# Altium schematic symbol library CMR_Connectors.SchLib: 71 symbols
Pins are listed as number, name and electrical type; pins without a type are passive.

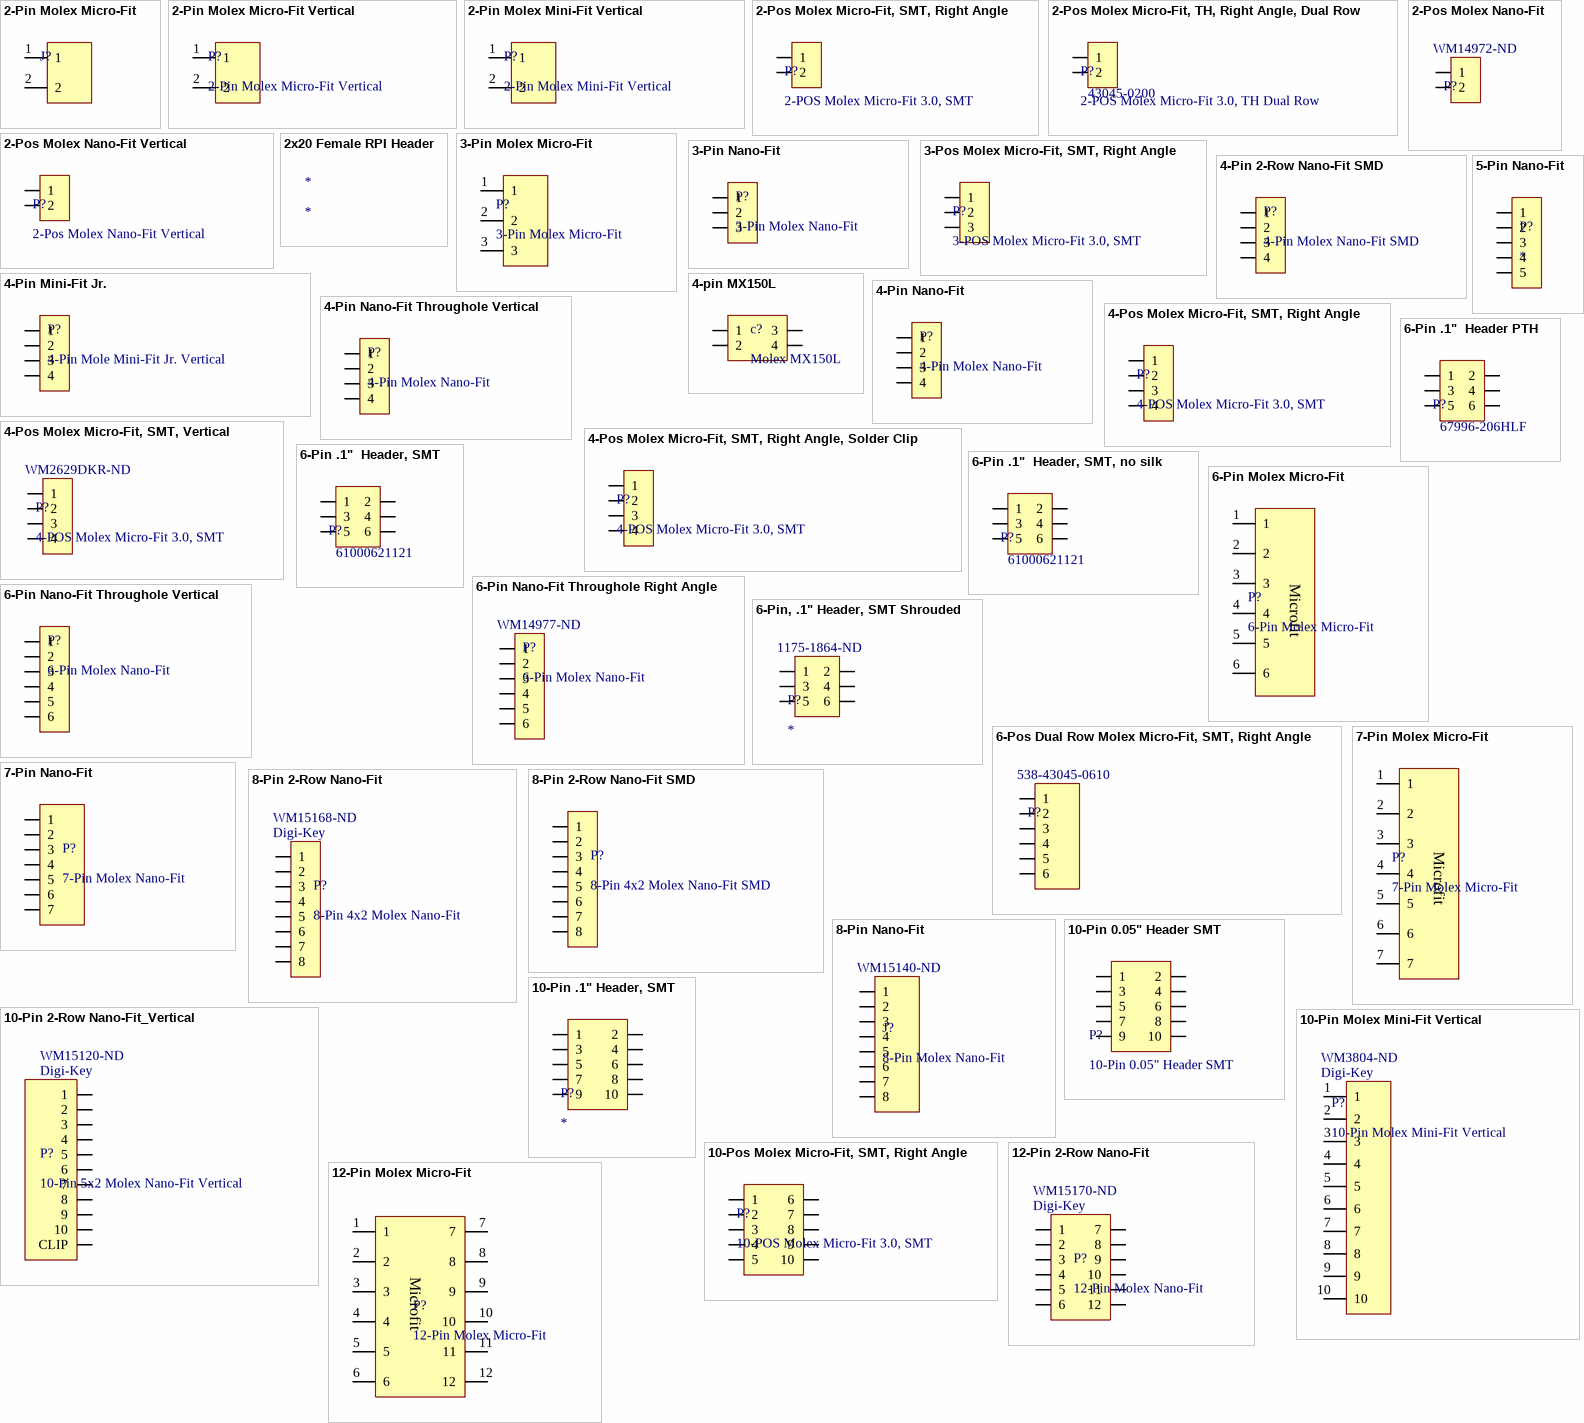
[diagram p0: symbols 2-Pin Molex Micro-Fit to 12-Pin Molex Micro-Fit]

## 2-Pin Molex Micro-Fit
designator J?
Part Number: 0436500203; Manufacturer: Molex; Datasheet: http://www.molex.com/pdm_docs/sd/436500203_sd.pdf; Supplier Part Number: WM1870-ND; Supplier: Digi-key
footprint 2 Pin Molex Micro-Fit
pins: 1, 2

## 2-Pin Molex Micro-Fit Vertical
designator P?
Part Number: 43650-0218; Manufacturer: Molex; Supplier 1: Digi-Key; Datasheet: http://www.molex.com/pdm_docs/sd/436500218_sd.pdf; Supplier Part Number 1: WM9757-ND
footprint 2 Pin Molex Micro-Fit Vertical
pins: 1, 2

## 2-Pin Molex Mini-Fit Vertical
designator P?
Part Number: 39-29-9025; Supplier Part Number: WM10860-ND; Supplier: Digi-key; Manufacturer: Molex
footprint Molex Mini Fit Jr. 2 Pin Vertical
pins: 1, 2

## 2-Pos Molex Micro-Fit, SMT, Right Angle
designator P?, comment 2-POS Molex Micro-Fit 3.0, SMT
2-Pos Molex Micro-Fit Right Angle, Dual Row, SMT; Part Number: 43650-0212; Datasheet: http://www.molex.com/pdm_docs/sd/436500212_sd.pdf; Manufacturer: Molex; Supplier 1: Digi-Key; Supplier Part Number 1: WM1890CT-ND
footprint 2-POS Molex Micro-Fit 3.0 (2-POS SMT HEADER, Molex Micro-Fit 3.0)
pins: 1, 2

## 2-Pos Molex Micro-Fit, TH, Right Angle, Dual Row
designator P?, comment 2-POS Molex Micro-Fit 3.0, TH Dual Row  Part Number: 43045-0200
2-Pos Molex Micro-Fit Right Angle, Dual Row, TH; Datasheet: http://www.molex.com/pdm_docs/sd/430450200_sd.pdf; Manufacturer: Molex; Supplier 1: Digi-Key; Supplier 2: Mouser; Supplier Part Number 2: N/A; Supplier Part Number 1: WM1813-ND
footprint 2-POS MOLEX MICRO-FIT 3.0 Dual Row (2-POS TH Dual Row HEADER, Molex Micro-Fit 3.0)
pins: 1, 2

## 2-Pos Molex Nano-Fit
designator P?  Supplier Part Number 1: WM14972-ND
2-Pos Molex Nano-Fit; Value: Value; Type: Type; RefDes: RefDes; Supplier 1: Digi-Key
footprint MOLEX NANO-FIT 1X2
pins: 1, 2

## 2-Pos Molex Nano-Fit Vertical
designator P?
Part Number: 1053111102; Datasheet: http://www.molex.com/pdm_docs/sd/436500212_sd.pdf; Manufacturer: Molex; Supplier 1: Digi-Key; Supplier Part Number 1: WM16921-ND
footprint MOLEX NANO-FIT 1X2 - Vertical (MOLEX NANO-FIT 1X2 - Vertical with Solder Clips)
pins: 1, 2

## 2x20 Female RPI Header
designator *

## 3-Pin Molex Micro-Fit
designator P?
3-Pin Molex Micro-Fit Right Angle; Part Number: 43650-0304; Datasheet: http://www.molex.com/pdm_docs/sd/436500304_sd.pdf; Supplier Part Number: WM1876-ND; Supplier: Digi-key; Manufacturer: Molex
footprint 3 Pin Molex Micro-Fit
pins: 1, 2, 3

## 3-Pin Nano-Fit
designator P?, comment 3-Pin Molex Nano-Fit
NanoFit RA Hdr TH SR 3Ckt; Part Number: 105313-1204; Supplier: Mouser; Manufacturer: Molex; Supplier Part Number: 538-105313-1204
footprint MOLEX NANO-FIT 1X3
pins: 1, 2, 3

## 3-Pos Molex Micro-Fit, SMT, Right Angle
designator P?, comment 3-POS Molex Micro-Fit 3.0, SMT
3-Pos Molex Micro-Fit Right Angle, Dual Row, SMT; Part Number: 43650-0312; Datasheet: http://www.molex.com/pdm_docs/sd/436500312_sd.pdf; Manufacturer: Molex; Supplier 1: Digi-Key; Supplier Part Number 1: WM1891CT-ND
footprint 3-POS Molex Micro-Fit 3.0 (3-POS SMT HEADER, Molex Micro-Fit 3.0)
pins: 1, 2, 3

## 4-Pin 2-Row Nano-Fit SMD
designator P?, comment 4-Pin Molex Nano-Fit SMD
NanoFit RA Hdr SMD SR 4Ckt 2Row; Part Number: 105313-1204; Supplier: Mouser; Manufacturer: Molex; Supplier Part Number: 538-105313-1204
footprint 4-POS 2x2 MOLEX NANO-FIT SMT
pins: 1, 2, 3, 4

## 4-Pin Mini-Fit Jr.
designator P?, comment 4-Pin Mole Mini-Fit Jr. Vertical
Manufacturer: Molex; Part Number: 0039302042; Supplier: Digikey; Supplier Part Number: WM12737-ND
footprint Molex Mini Fit Jr. 4 Pin Vertical
pins: 1, 2, 3, 4

## 4-pin MX150L
designator c?, comment Molex MX150L
footprint Molex MX150L 2x2
pins: 1, 2, 3, 4

## 4-Pin Nano-Fit
designator P?, comment 4-Pin Molex Nano-Fit
NanoFit RA Hdr TH SR 4Ckt; Part Number: 105313-1204; Supplier: Mouser; Manufacturer: Molex; Supplier Part Number: 538-105313-1204
footprint MOLEX NANO-FIT 1X4
pins: 1, 2, 3, 4

## 4-Pin Nano-Fit Throughole Vertical
designator P?, comment 4-Pin Molex Nano-Fit
NanoFit ST Hdr TH SR 4Ckt; Part Number: 105313-1204; Supplier: Mouser; Manufacturer: Molex; Supplier Part Number: 538-105313-1204
footprint MOLEX NANO-FIT 1X4 - Vertical (MOLEX NANO-FIT 1X4 - Vertical with Solder Clips)
pins: 1, 2, 3, 4

## 4-Pos Molex Micro-Fit, SMT, Right Angle
designator P?, comment 4-POS Molex Micro-Fit 3.0, SMT
4-Pos Molex Micro-Fit Right Angle, SMT; Part Number: 43650-0412; Datasheet: http://www.molex.com/pdm_docs/sd/436500412_sd.pdf; Manufacturer: Molex; Supplier 1: Digi-Key; Supplier Part Number 1: WM1892CT-ND
footprint 4-POS Molex Micro-Fit 3.0 (4-POS SMT HEADER, Molex Micro-Fit 3.0)
pins: 1, 2, 3, 4

## 4-Pos Molex Micro-Fit, SMT, Right Angle, Solder Clip
designator P?, comment 4-POS Molex Micro-Fit 3.0, SMT
4-Pos Molex Micro-Fit Right Angle, Solder Clip, SMT; Part Number: 43650-0412; Datasheet: http://www.molex.com/pdm_docs/sd/436500412_sd.pdf; Manufacturer: Molex; Supplier 1: Digi-Key; Supplier Part Number 1: WM1892CT-ND
footprint 4-POS Molex Micro-Fit 3.0, solder clip (4-POS SMT HEADER, Molex Micro-Fit 3.0, solder clip)
pins: 1, 2, 3, 4

## 4-Pos Molex Micro-Fit, SMT, Vertical
designator P?, comment 4-POS Molex Micro-Fit 3.0, SMT  Supplier Part Number 1: WM2629DKR-ND
4-Pos Molex Micro-Fit Right Angle, Dual Row, SMT; Part Number: 43650-0412; Datasheet: http://www.molex.com/pdm_docs/sd/436500412_sd.pdf; Manufacturer: Molex; Supplier 1: Digi-Key
footprint 4-POS Molex Micro-Fit 3.0 Vertical (4-POS SMT HEADER, Molex Micro-Fit 3.0 Vertical)
pins: 1, 2, 3, 4

## 5-Pin Nano-Fit
designator P?
pins: 1, 2, 3, 4, 5

## 6-Pin .1"  Header PTH
designator P?, comment Manufacturer Part Number: 67996-206HLF  (hidden comment: 3x2 .1" TH Header)
Rows: 2; Supplier 1: Digi-Key; Supplier Part Number 1: 609-3210-ND
footprint 6 PIN Header, .1", TH (3x2 .1" TH Header)
pins: 1, 2, 3, 4, 5, 6

## 6-Pin .1"  Header, SMT
designator P?, comment Manufacturer Part Number: 61000621121  (hidden comment: 3x2 .1" SMT Header)
Rows: 2; Supplier 1: Digi-Key; Supplier Part Number 1: 732-5461-5-ND
footprint 6 PIN Header, .1", SMT (3x2 .1" SMT Header)
pins: 1, 2, 3, 4, 5, 6

## 6-Pin .1"  Header, SMT, no silk
designator P?, comment Manufacturer Part Number: 61000621121  (hidden comment: 3x2 .1" SMT Header, no silk)
Rows: 2; Supplier 1: Digi-Key; Supplier Part Number 1: 732-5461-5-ND
footprint 6 PIN Header, .1", SMT, no silk (w/out silkscreen box)
pins: 1, 2, 3, 4, 5, 6

## 6-Pin Molex Micro-Fit
designator P?
6-Pin Molex Micro-Fit Right Angle; Part Number: 0436500600; Datasheet: http://www.molex.com/molex/products/datasheet.jsp?part=active/0436500609_PCB_HEADERS.xml; Supplier Part Number: WM1864-ND; Supplier: Digi-key; Manufacturer: Molex
footprint 6 Pin Molex Micro-Fit
pins: 1, 2, 3, 4, 5, 6
text: Microfit

## 6-Pin Nano-Fit Throughole Right Angle
designator P?, comment 6-Pin Molex Nano-Fit  Supplier Part Number 1: WM14977-ND
NanoFit ST Hdr TH SR 6Ckt 2x3; Part Number: 105313-1204; Supplier: Mouser; Manufacturer: Molex; Supplier Part Number: 538-105313-1204; Supplier 1: Digi-Key
footprint MOLEX NANO-FIT 2X3 - RIGHT ANGLE (MOLEX NANO-FIT 2X3 - Right Angle)
pins: 1, 2, 3, 4, 5, 6

## 6-Pin Nano-Fit Throughole Vertical
designator P?, comment 6-Pin Molex Nano-Fit
NanoFit ST Hdr TH SR 6Ckt 2x3; Part Number: 105313-1204; Supplier: Mouser; Manufacturer: Molex; Supplier Part Number: 538-105313-1204
footprint MOLEX NANO-FIT 2x3 - Vertical (MOLEX NANO-FIT 2X3 - Vertical with Solder Clips)
pins: 1, 2, 3, 4, 5, 6

## 6-Pin, .1" Header, SMT Shrouded
designator P?  Supplier Part Number 1: 1175-1864-ND
IDC BOX HEADER 0.100 6 POS; Supplier 1: Digi-Key
footprint 6 PIN HEADER, .1", SMT SHROUDED
pins: 1, 2, 3, 4, 5, 6

## 6-Pos Dual Row Molex Micro-Fit, SMT, Right Angle
designator P?, comment Supplier Part Number 1: 538-43045-0610  (hidden comment: 6-POS Dual Row Molex Micro-Fit 3.0, SMT)
6-Pos Dual Row Molex Micro-Fit, SMT, Right Angle; Part Number: 43045-0610; Datasheet: http://www.mouser.com/ds/2/276/0430450610_PCB_HEADERS-142619.pdf; Manufacturer: Molex; Supplier 1: Mouser
footprint 6-POS Dual Row Molex Micro-Fit 3.0 (6-POS Dual Row SMT HEADER, Molex Micro-Fit 3.0)
pins: 1, 2, 3, 4, 5, 6

## 7-Pin Molex Micro-Fit
designator P?
7-Pin Molex Micro-Fit Right Angle; Part Number: 0436500700; Datasheet: http://www.molex.com/pdm_docs/sd/436500203_sd.pdf; Supplier Part Number: WM2423-ND; Supplier: Digi-key; Manufacturer: Molex
footprint 7 Pin Molex Micro-Fit
pins: 1, 2, 3, 4, 5, 6, 7
text: Microfit

## 7-Pin Nano-Fit
designator P?, comment 7-Pin Molex Nano-Fit
NanoFit RA Hdr TH SR 7Ckt; Manufacturer: Mouser; Part Number: 105313-1207; Supplier: Mouser; Supplier Part Number: 538-105313-1207
footprint MOLEX NANO-FIT 1x7
pins: 1, 2, 3, 4, 5, 6, 7

## 8-Pin 2-Row Nano-Fit
designator P?, comment 8-Pin 4x2 Molex Nano-Fit  Supplier 1: Digi-Key  Supplier Part Number 1: WM15168-ND
NanoFit RA Hdr TH DR 8Ckt; Part Number: 105314-1216; Supplier: Digi-Key; Manufacturer: Molex; Supplier Part Number: WM15165-ND
footprint MOLEX NANO-FIT 2x4 (MOLEX NANO-FIT 2X4)
pins: 1, 2, 3, 4, 5, 6, 7, 8

## 8-Pin 2-Row Nano-Fit SMD
designator P?, comment 8-Pin 4x2 Molex Nano-Fit SMD
NanoFit RA Hdr SMD DR 8Ckt; Part Number: 105314-1216; Supplier: Digi-Key; Manufacturer: Molex; Supplier Part Number: WM15165-ND
footprint MOLEX NANO-FIT 4X2 RA SMD
pins: 1, 2, 3, 4, 5, 6, 7, 8

## 8-Pin Nano-Fit
designator J?, comment 8-Pin Molex Nano-Fit  Supplier Part Number 1: WM15140-ND
NANO-FIT HDR RA SGL 8CKT 15AU BL; Supplier 1: Digi-Key
footprint MOLEX NANO-FIT 1x8
pins: 1, 2, 3, 4, 5, 6, 7, 8

## 10-Pin 0.05" Header SMT
designator P?
Manu. Part Number: 3220-10-0300-00; Manu: CNC Tech; Supplier Part Number: 1175-1629-ND; Supplier 1: Digi-Key; Supplier Part Number 1: 1175-1629-ND
footprint 10 PIN 0.05" HEADER
pins: 1, 2, 3, 4, 5, 6, 7, 8, 9, 10

## 10-Pin 2-Row Nano-Fit_Vertical
designator P?, comment 10-Pin 5x2 Molex Nano-Fit Vertical  Supplier 1: Digi-Key  Supplier Part Number 1: WM15120-ND
NanoFit VT Hdr TH DR 10Ckt; Part Number: 105314-1216; Supplier: Digi-Key; Manufacturer: Molex; Supplier Part Number: WM15165-ND; ComponentLink1Description: Digikey Link; ComponentLink1URL: https://www.digikey.com/product-detail/en/molex-llc/1053121310/WM15120-ND/6164209
footprint MOLEX NANO-FIT 2x5 - Vertical (MOLEX NANO-FIT 2X5 - Vertical with Solder Clips)
pins: 1, 2, 3, 4, 5, 6, 7, 8, 9, 10, 11 CLIP

## 10-Pin .1" Header, SMT
designator P?
Manu. Part Number: 3020-10-0300-00; Manu: CNC Tech; Max Current: 1A; Max Voltage: 500VAC; Supplier 1: Digi-Key; Supplier Part Number 1: 1175-1621-ND
footprint 10 PIN .100" SMT Header
pins: 1, 2, 3, 4, 5, 6, 7, 8, 9, 10

## 10-Pin Molex Mini-Fit Vertical
designator P?  Supplier 1: Digi-Key  Supplier Part Number 1: WM3804-ND
Part Number: 39-29-9025; Supplier Part Number: WM10860-ND; Supplier: Digi-key; Manufacturer: Molex; ComponentLink1Description: Digikey Link; ComponentLink1URL: https://www.digikey.com/product-detail/en/molex-connector-corporation/39-28-9068/WM3834-ND/1633808
footprint Molex Mini Fit Jr. 10 Pin Vertical
pins: 1, 2, 3, 4, 5, 6, 7, 8, 9, 10

## 10-Pos Molex Micro-Fit, SMT, Right Angle
designator P?, comment 10-POS Molex Micro-Fit 3.0, SMT
10-Pos Molex Micro-Fit Right Angle, Dual Row, SMT; Part Number: 43045-1010; Datasheet: http://www.molex.com/pdm_docs/sd/430451010_sd.pdf; Manufacturer: Molex; Supplier 1: Digi-Key; Supplier Part Number 1: WM3819CT-ND
footprint 10-POS Molex Micro-Fit 3.0 (10-POS SMT HEADER, Molex Micro-Fit 3.0)
pins: 1, 2, 3, 4, 5, 6, 7, 8, 9, 10

## 12-Pin 2-Row Nano-Fit
designator P?, comment 12-Pin Molex Nano-Fit  Supplier 1: Digi-Key  Supplier Part Number 1: WM15170-ND
NanoFit RA Hdr TH DR 12Ckt; ComponentLink1Description: Digikey Link; ComponentLink1URL: https://www.digikey.com/product-detail/en/molex-llc/1053141312/WM15170-ND/6164259
footprint MOLEX NANO-FIT 2X6 - Right Angle
pins: 1, 2, 3, 4, 5, 6, 7, 8, 9, 10, 11, 12

## 12-Pin Molex Micro-Fit
designator P?
12-Pin Molex Micro-Fit Right Angle, Dual Row; Part Number: 43045-1200; Datasheet: https://www.molex.com/molex/products/datasheet.jsp?part=active/0430451200_PCB_HEADERS.xml; Supplier Part Number: WM1818-ND; Supplier: Digi-key; Manufacturer: Molex
footprint 12-POS MOLEX MICRO-FIT RIGHT-ANGLE
pins: 1, 2, 3, 4, 5, 6, 7, 8, 9, 10, 11, 12
text: Microfit

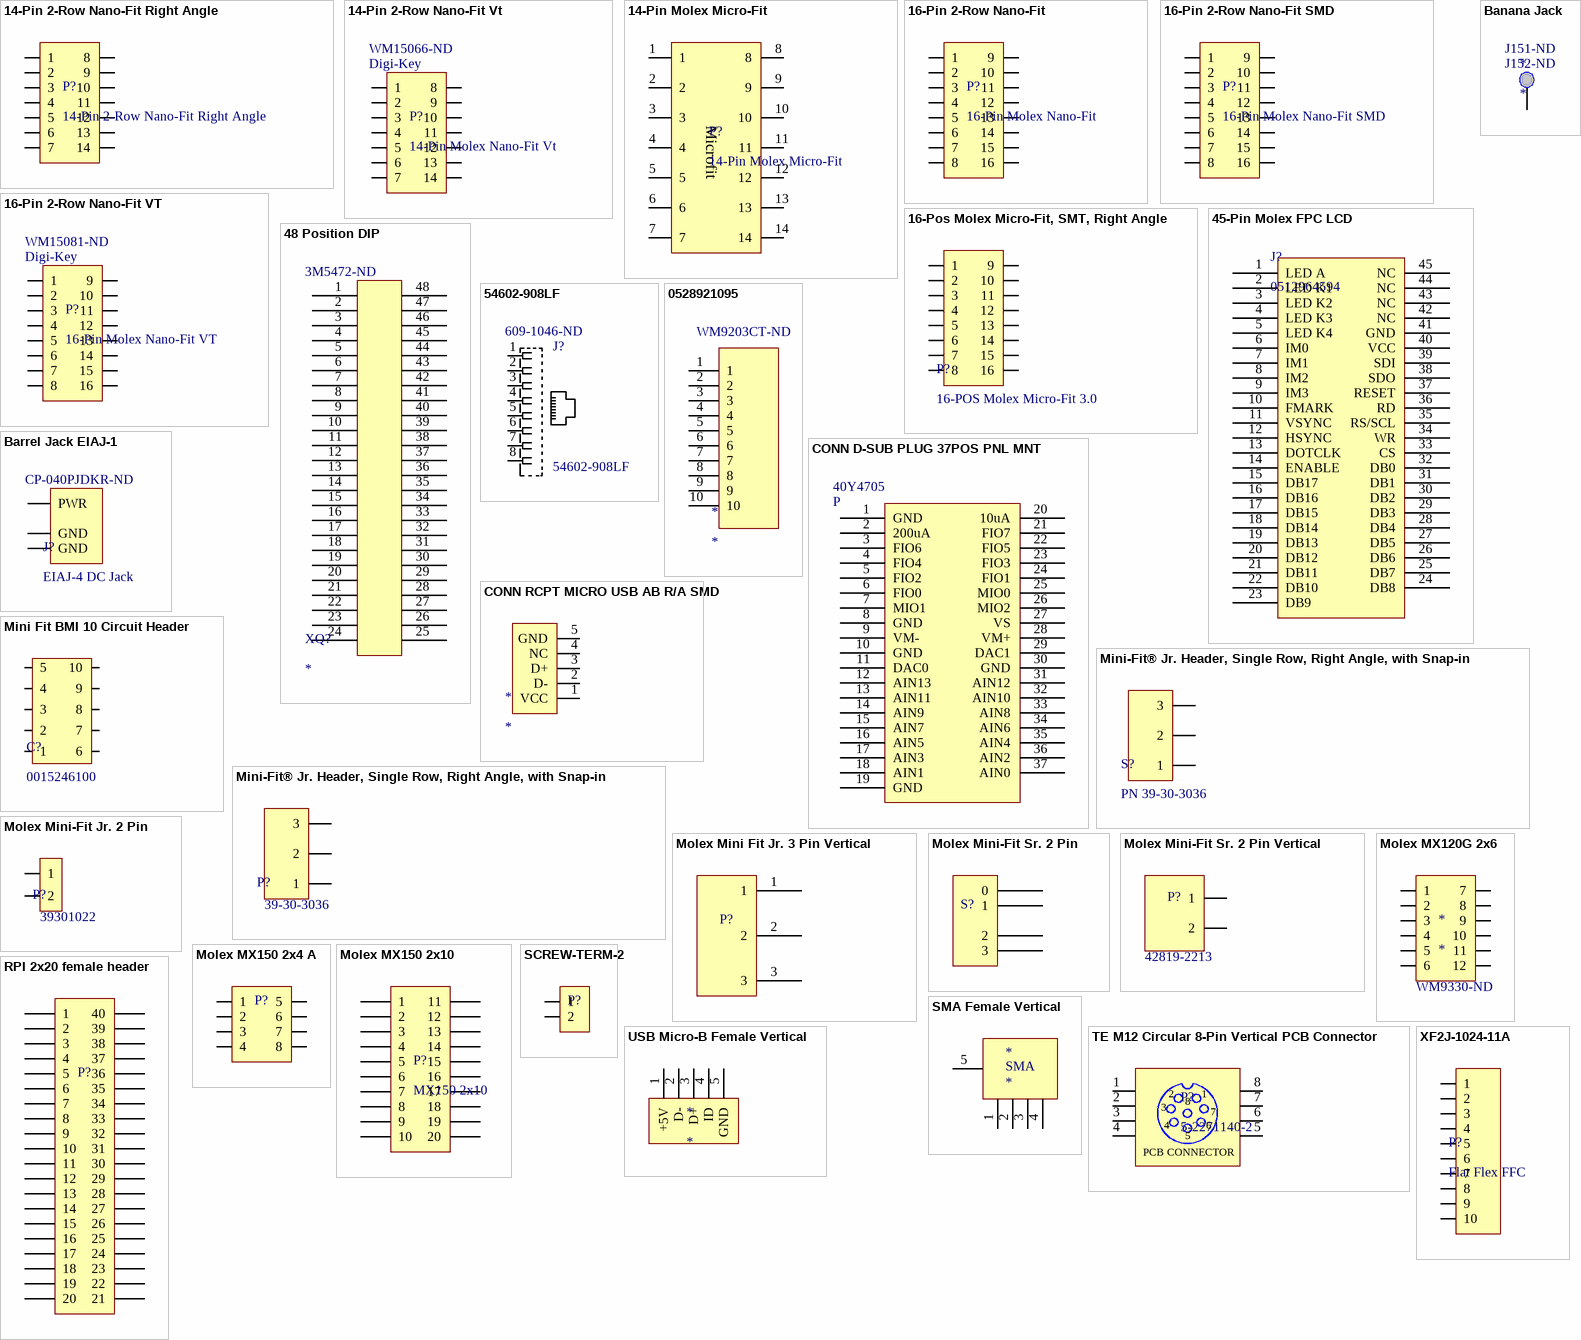
[diagram p1: symbols 14-Pin 2-Row Nano-Fit Right Angle to XF2J-1024-11A]

## 14-Pin 2-Row Nano-Fit Right Angle
designator P?
NanoFit Right Hdr TH DR 14Ckt; Part Number: 105314-1214; Manufacturer: Molex; Supplier: Mouser; Supplier Part Number: 538-105314-1214; Supplier 1: Mouser; Supplier Part Number 1: 538-105314-1214; ComponentLink1Description: Mouser Link; ComponentLink1URL: https://www.mouser.com/ProductDetail/Molex/105314-1214?qs=PqFvFmEiOr6wLIXpvlvqbA%3D%3D
footprint MOLEX NANO-FIT 2X7 - Right Angle
pins: 1, 2, 3, 4, 5, 6, 7, 8, 9, 10, 11, 12, 13, 14

## 14-Pin 2-Row Nano-Fit Vt
designator P?, comment 14-Pin Molex Nano-Fit Vt  Supplier 1: Digi-Key  Supplier Part Number 1: WM15066-ND
NanoFit VT Hdr TH DR 14Ckt; Part Number: 105314-1216; Supplier: Digi-Key; Manufacturer: Molex; Supplier Part Number: WM15165-ND; ComponentLink1Description: Digikey Link; ComponentLink1URL: https://www.digikey.com/product-detail/en/molex-llc/1053101314/WM15066-ND/6164155
footprint MOLEX NANO-FIT 2X7 - Vertical
pins: 1, 2, 3, 4, 5, 6, 7, 8, 9, 10, 11, 12, 13, 14

## 14-Pin Molex Micro-Fit
designator P?
14-Pin Molex Micro-Fit Right Angle, Dual Row; Part Number: 43045-1402; Datasheet: http://www.molex.com/webdocs/datasheets/pdf/en-us/0430451402_PCB_HEADERS.pdf; Supplier Part Number: WM4729-ND; Supplier: Digi-key; Manufacturer: Molex
footprint 14 Pin Molex Micro-Fit
pins: 1, 2, 3, 4, 5, 6, 7, 8, 9, 10, 11, 12, 13, 14
text: Microfit

## 16-Pin 2-Row Nano-Fit
designator P?, comment 16-Pin Molex Nano-Fit
NanoFit RA Hdr TH DR 16Ckt; Part Number: 105314-1216; Supplier: Digi-Key; Manufacturer: Molex; Supplier Part Number: WM15165-ND
footprint MOLEX NANO-FIT 2X8
pins: 1, 2, 3, 4, 5, 6, 7, 8, 9, 10, 11, 12, 13, 14, 15, 16

## 16-Pin 2-Row Nano-Fit SMD
designator P?, comment 16-Pin Molex Nano-Fit SMD
NanoFit SMD Hdr TH DR 16Ckt; Part Number: 105314-1216; Supplier: Digikey; Manufacturer: Molex; Supplier Part Number: WM15165-ND
footprint 16-POS MOLEX NANO-FIT SMT
pins: 1, 2, 3, 4, 5, 6, 7, 8, 9, 10, 11, 12, 13, 14, 15, 16

## 16-Pin 2-Row Nano-Fit VT
designator P?, comment 16-Pin Molex Nano-Fit VT  Supplier 1: Digi-Key  Supplier Part Number 1: WM15081-ND
NanoFit VT Hdr TH DR 16Ckt; Part Number: 105314-1216; Supplier: Digi-Key; Manufacturer: Molex; Supplier Part Number: WM15165-ND; ComponentLink1Description: Digikey Link; ComponentLink1URL: WM15081-ND
footprint MOLEX NANO-FIT 2X8 - Vertical
pins: 1, 2, 3, 4, 5, 6, 7, 8, 9, 10, 11, 12, 13, 14, 15, 16

## 16-Pos Molex Micro-Fit, SMT, Right Angle
designator P?, comment 16-POS Molex Micro-Fit 3.0
16-Pos Molex Micro-Fit Right Angle, Dual Row; Part Number: 43045-1609; Datasheet: http://www.molex.com/webdocs/datasheets/pdf/en-us/0430451402_PCB_HEADERS.pdf; Manufacturer: Molex; Supplier 1: Mouser; Supplier Part Number 1: 538-43045-1609
footprint 16-POS Molex Micro-Fit 3.0 (16-POS SMT HEADER, Molex Micro-Fit 3.0)
pins: 1, 2, 3, 4, 5, 6, 7, 8, 9, 10, 11, 12, 13, 14, 15, 16

## 45-Pin Molex FPC LCD
designator J?, comment 0512964594
45 pin Molex FPC, 0.50mm pitch; Supplier 1: Digi-Key; Supplier Part Number 1: WM6749TR-ND; Manufacturer: Molex; Manufacturer Part Number: 0512964594; Datasheet: http://www.molex.com/webdocs/datasheets/pdf/en-us/0512964594_FFC_FPC_CONNECTORS.pdf
footprint 45-pin Molex FPC (Molex FPC connector, SMT, 45 pos)
pins: 1 LED A, 2 LED K1, 3 LED K2, 4 LED K3, 5 LED K4, 6 IM0, 7 IM1, 8 IM2, 9 IM3, 10 FMARK, 11 VSYNC, 12 HSYNC, 13 DOTCLK, 14 ENABLE, 15 DB17, 16 DB16, 17 DB15, 18 DB14, 19 DB13, 20 DB12, 21 DB11, 22 DB10, 23 DB9, 24 DB8, 25 DB7, 26 DB6, 27 DB5, 28 DB4, 29 DB3, 30 DB2, 31 DB1, 32 DB0, 33 CS, 34 WR, 35 RS/SCL, 36 RD, 37 RESET, 38 SDO, 39 SDI, 40 VCC, 41 GND, 42 NC, 43 NC, 44 NC, 45 NC

## 48 Position DIP
designator XQ?  Supplier Part Number 1: 3M5472-ND
CONN IC DIP SOCKET 48POS TIN; Supplier 1: Digi-Key
footprint DIP48
pins: 1, 2, 3, 4, 5, 6, 7, 8, 9, 10, 11, 12, 13, 14, 15, 16, 17, 18, 19, 20, 21, 22, 23, 24, 25, 26, 27, 28, 29, 30, 31, 32, 33, 34, 35, 36, 37, 38, 39, 40, 41, 42, 43, 44, 45, 46, 47, 48

## 54602-908LF
designator J?  Supplier Part Number 1: 609-1046-ND
Conn Modular Jack F 8 POS 2.54mm Solder RA Thru-Hole 8 Terminal 1 Port Box Cat 3; MF: Amphenol FCI; Package: None; Digi-Key_Part_Number: 609-1046-ND; MP: 54602-908LF; SnapEDA_Link: https://www.snapeda.com/parts/54602-908LF/Amphenol%20FCI/view-part/?ref=snap; Digi-Key_Purchase_URL: https://www.digikey.com/product-detail/en/amphenol-fci/54602-908LF/609-1046-ND/1001360?utm_source=snapeda&utm_medium=aggregator&utm_campaign=symbol; Value: *; Supplier 1: Digi-Key
footprint AMPHENOL_54602-908LF
pins: 1, 2, 3, 4, 5, 6, 7, 8

## 0528921095
designator *  Supplier Part Number 1: WM9203CT-ND
CONN FFC BOTTOM 10POS 0.50MM R/A; Manufacturer: Molex, LLC; Manufacturer Part Number: 0528921095; Flat Flex Type: FFC, FPC; Connector/Contact Type: Contacts, Bottom; Number of Positions: 10; Pitch: 0.020" (0.50mm); FFC, FCB Thickness: 0.30mm; Locking Feature: Flip Lock; Cable End Type: Straight, Tapered; Actuator Material: Polyphenylene Sulfide (PPS), Glass Filled; Voltage Rating: 50V; Material Flammability Rating: UL94 V-0; Current Rating: 0.5A; Supplier 1: Digi-Key; RoHS: RoHS Compliant; Category: Connectors, Interconnects; Stock 1: 767; Pricing 1: 1=0.97, 10=0.849, 25=0.7988, 50=0.7654, 100=0.7321, 250=0.66556, 500=0.59898 (USD); Packaging: Cut Tape (CT); Part Status: Obsolete; Mounting Type: Surface Mount, Right Angle; Termination: Solder; Height Above Board: 0.079" (2.00mm); Contact Material: Phosphor Bronze; Contact Finish: Tin Bismuth; Housing Material: Polyamide (PA46), Nylon 4/6; Features: Solder Retention, Zero Insertion Force (ZIF); Operating Temperature: -25°C ~ 85°C; ComponentLink1URL: http://www.molex.com/pdm_docs/sd/528921095_sd.pdf; ComponentLink1Description: http://www.molex.com/pdm_docs/sd/528921095_sd.pdf
footprint 0528921095
pins: 1, 2, 3, 4, 5, 6, 7, 8, 9, 10

## Banana Jack
designator *  Supplier Part Number 1: J152-ND  Supplier Part Number 2: J151-ND
Supplier 1: Digi-Key; Supplier 2: Digi-Key
footprint BANANA JACK (BANANA JACK 8mm HOLE)
pins: 1

## Barrel Jack EIAJ-1
designator J?, comment EIAJ-4 DC Jack  Supplier Part Number 1: CP-040PJDKR-ND
DC Power Jack; Current Rating: 1A; Voltage Rating: 16V; Datasheet: http://www.cui.com/product/resource/pj-040-smt.pdf; Supplier 1: Digi-Key
footprint DC Barrel Jack (16V 1A DC Barrel Jack)
pins: 1 PWR, 2 GND, 3 GND

## CONN D-SUB PLUG 37POS PNL MNT
designator P  Supplier Part Number 1: 40Y4705
37 Position D-Sub Plug; Part Number: 0436500203; Manufacturer: Molex; Datasheet: http://www.molex.com/pdm_docs/sd/436500203_sd.pdf; Supplier Part Number: WM1870-ND; Supplier: Digi-key; ComponentLink1Description: Digikey Kink; ComponentLink1URL: https://www.digikey.com/product-detail/en/norcomp-inc/171-037-103L001/237ME-ND/858153; Supplier 1: Newark
footprint 37-POS D-SUB (D-SUB- 37P, FEMALE, STRAIGHT, TH)
pins: 1 GND, 2 200uA, 3 FIO6, 4 FIO4, 5 FIO2, 6 FIO0, 7 MIO1, 8 GND, 9 VM-, 10 GND, 11 DAC0, 12 AIN13, 13 AIN11, 14 AIN9, 15 AIN7, 16 AIN5, 17 AIN3, 18 AIN1, 19 GND, 20 10uA, 21 FIO7, 22 FIO5, 23 FIO3, 24 FIO1, 25 MIO0, 26 MIO2, 27 VS, 28 VM+, 29 DAC1, 30 GND, 31 AIN12, 32 AIN10, 33 AIN8, 34 AIN6, 35 AIN4, 36 AIN2, 37 AIN0

## CONN RCPT MICRO USB AB R/A SMD
designator *
MicroUSB AB
footprint HRS_ZX62D-B-5P8
pins: 1 VCC (power), 2 D-, 3 D+, 4 NC, 5 GND

## Mini Fit BMI 10 Circuit Header
designator C?, comment 0015246100
Mini-Fit® BMI Header, Dual Row, Right Angle, with Snap-in Plastic Peg PCB Lock, 10 Circuits, PA Polyamide Nylon 6/6, UL 94V-2, with Tin (Sn) Plating; Rows: 2; Circuits: 10; Max Current: 13A (not derated); Part Number: 0015246100
footprint MOLEX Mini-Fit BMI 2 row, 10 contact
pins: 1, 2, 3, 4, 5, 6, 7, 8, 9, 10

## Mini-Fit® Jr. Header, Single Row, Right Angle, with Snap-in Plastic Peg PCB Lock, 3 Circuits, PA Polyamide Nylon 6/6, 94V-0, Tin (Sn) Plating
designator S?, comment PN 39-30-3036
Mini-Fit® Jr. Header, Single Row, Right Angle, with Snap-in Plastic Peg PCB Lock, 3 Circuits, PA Polyamide Nylon 6/6, 94V-0, Tin (Sn) Plating; Circuit: 3; Voltage Rating: 600V; Current Rating (max): 13A
footprint Mini-Fit® Jr. Header 3 Circuit (Mini-Fit® Jr. Header, Single Row, Right Angle, with Snap-in Plastic Peg PCB Lock, 3 Circuits, PA Polyamide Nylon 6/6, 94V-0, Tin (Sn) Plating)
pins: 1, 2 (power), 3

## Mini-Fit® Jr. Header, Single Row, Right Angle, with Snap-in Plastic Peg PCB Lock, 3 Circuits, PA Polyamide Nylon 6/6, 94V-0, Tin (Sn) Plating_1
designator P?, comment Manufacturer Part Number: 39-30-3036  (hidden comment: Mini-Fit® Jr. Header, Single Row, 3 Circuits, Right Angle)
Mini-Fit® Jr. Header, Single Row, Right Angle, with Snap-in Plastic Peg PCB Lock, 3 Circuits, PA Polyamide Nylon 6/6, 94V-0, Tin (Sn) Plating; Manufacturer: Molex; Circuit: 3; Voltage Rating: 600V; Current Rating (max): 13A; Supplier 1: Digi-Key; Supplier Part Number 1: WM24038-ND
footprint Molex Mini Fit Jr. 3 Pin Right Angle (Mini-Fit® Jr. Header, Single Row, Right Angle, with Snap-in Plastic Peg PCB Lock, 3 Circuits, PA Polyamide Nylon 6/6, 94V-0, Tin (Sn) Plating)
pins: 1, 2 (power), 3

## Molex Mini Fit Jr. 3 Pin Vertical
designator P?, comment 39-30-2030  (value not drawn)
Manufacturer: Molex; Circuits: 3; Current Rating: 9A; Voltage Rating: 600V; Datasheet URL: http://www.molex.com/webdocs/datasheets/pdf/en-us/0039302030_PCB_HEADERS.pdf; Manufacturer Part Number: 39-30-2030
footprint Molex Mini Fit Jr. 3 Pin Vertical
pins: 1, 2, 3

## Molex Mini-Fit Jr. 2 Pin
designator P?  Manufacturer PN: 39301022  (hidden comment: Molex Mini-Fit Jr. 2 Pin)
Molex Mini-Fit Jr., Right Angle, TH, 2x1; Max Current (per contact): 13 A; Max Voltage (DC): 600 V; Supplier 1: Digi-Key; Supplier Part Number 1: WM21363-ND
footprint MOLEX MINI-FIT JR. 2 PIN (Molex Mini-Fit Jr., Right Angle, TH, 2x1)
pins: 1, 2

## Molex Mini-Fit Sr. 2 Pin
designator S?  (value not drawn)
footprint Molex Mini Fit Sr. 2 Pin
pins: 0, 1, 2, 3

## Molex Mini-Fit Sr. 2 Pin Vertical
designator P?  Manufacturer Part #: 42819-2213  (hidden comment: Molex Mini-Fit Sr. 2 Pin Vertical)
10.00mm Pitch Mini-Fit Sr.™ Header, Single Row, Vertical, 1.57mm PCB Thickness, 0.76µm Gold (Au) Selective Plating, 2 Circuits; Circuits: 2; Current Rating: 50A; Voltage Rating: 600V; Manufacturer: Molex; Datasheet URL: http://www.molex.com/webdocs/datasheets/pdf/en-us/0428192213_PCB_HEADERS.pdf; Supplier 1: Digi-Key; Supplier Part Number 1: WM10846-ND
footprint MOLEX MINI FIT SR. 2 PIN VERTICAL
pins: 1, 2

## Molex MX120G 2x6
designator *  Supplier Part Number 1: WM9330-ND
CONN HEADR 12POS 3.2MM SEALED; Manufacturer: Molex, LLC; Manufacturer Part Number: 0367831201; Connector Type: Header; Pitch - Mating: 0.126" (3.20mm); Number of Positions: 12; Row Spacing - Mating: 0.233" (5.93mm); Number of Positions Loaded: All; Style: Board to Cable/Wire; Shrouding: Shrouded - 4 Wall; Ingress Protection: IP67 - Dust Tight, Waterproof; Material Flammability Rating: UL94 HB; Supplier 1: Digi-Key; RoHS: RoHS Compliant; Category: Connectors, Interconnects; Stock 1: 13538; Pricing 1: 1=1.38, 10=1.21, 100=1.0437, 500=0.85392, 1000=0.75904, 5000=0.66416, 10000=0.63095 (USD); Packaging: Bulk; Part Status: Active; Contact Type: Male Pin; Number of Rows: 2; Mounting Type: Panel Mount, Through Hole, Right Angle; Termination: Solder; Fastening Type: Locking Ramp; Contact Length - Mating: -; Contact Length - Post: -; Overall Contact Length: -; Insulation Height: 0.649" (16.49mm); Contact Shape: Square; Contact Finish - Mating: Tin; Contact Finish Thickness - Mating: 39µin (1.00µm); Contact Finish - Post: Tin; Contact Material: Brass; Insulation Material: Polyamide (PA), Nylon, Glass Filled; Features: Board Lock; Operating Temperature: -; Insulation Color: Black; Current Rating: -; Voltage Rating: -; Mated Stacking Heights: -; Contact Finish Thickness - Post: -; Applications: Automotive, Industrial, Lighting, Medical; ComponentLink1URL: http://www.molex.com/pdm_docs/sd/367831201_sd.pdf; ComponentLink1Description: http://www.molex.com/pdm_docs/sd/367831201_sd.pdf
footprint MOLEX MX120G 2x6
pins: 1, 2, 3, 4, 5, 6, 7, 8, 9, 10, 11, 12

## Molex MX150 2x4 A
designator P?, comment MX150 2x4  (value not drawn)
MX150™ 2x4 Dual Row Right Angle Header, 8 Circuits, Polarization A, Black, Solder Tail; Part Number: 34830-0801; Wire Gauge: 14-22 AWG; Max Current: 22A; Max Voltage: 500 Vdc; Sealed: Yes; Rows: 2; Circuits: 8
footprint MOLEX MX150 2x4
pins: 1, 2, 3, 4, 5, 6, 7, 8

## Molex MX150 2x10
designator P?, comment MX150 2x10
MX150™ 2x10 Dual Row Right Angle Header, 20 Circuits, Polarization A, Black, Solder Tail; Part Number: 34830-2001; Rows: 2; Circuits: 20; Sealed: Yes; Max Current: 22A; Max Voltage: 250V
footprint MOLEX MX150 2X10
pins: 1, 2, 3, 4, 5, 6, 7, 8, 9, 10, 11, 12, 13, 14, 15, 16, 17, 18, 19, 20

## RPI 2x20 female header
designator P?
Part Number: 34830-2001; Rows: 2; Circuits: 20; Sealed: Yes; Max Current: 22A; Max Voltage: 250V
footprint 2x20 header
pins: 1, 2, 3, 4, 5, 6, 7, 8, 9, 10, 11, 12, 13, 14, 15, 16, 17, 18, 19, 20, 21, 22, 23, 24, 25, 26, 27, 28, 29, 30, 31, 32, 33, 34, 35, 36, 37, 38, 39, 40

## SCREW-TERM-2
designator P?  (value not drawn)
DigiKey ED10561-ND
footprint SCREW-TERM-2 (Footprint not found)
pins: 1, 2

## SMA Female Vertical
designator *
Manufacturer: TE Connectivity; Manufacturer Part Number: 5-1814832-1
footprint SMA FEMALE VERTICAL
pins: 1 MOUNT, 2 MOUNT, 3 MOUNT, 4 MOUNT, 5 SIGNAL
text: SMA

## TE M12 Circular 8-Pin Vertical PCB Connector
designator P?, comment 5-2271140-2
M12 Male Panel Mount, A Code, 8 Position, PCB Type; Manufacturer: TE Connectivity; Datasheet: http://www.te.com/commerce/DocumentDelivery/DDEController?Action=showdoc&DocId=Customer+Drawing%7F2271140%7FA2%7Fpdf%7FEnglish%7FENG_CD_2271140_A2.pdf%7F5-2271140-2; Manufacturer Part Number: 5-2271140-2; Supplier 1: Mouser; Supplier Part Number 1: 571-5-2271140-2
footprint TE 5-2271140-2 8POS (TE 8-Position rear panel mount circular connector)
pins: 1, 2, 3, 4, 5, 6, 7, 8
text: PCB CONNECTOR

## USB Micro-B Female Vertical
designator *
Manufacturer: Molex; Manufacturer Part Number: 1051330001
footprint USB MicroB Vertical Female
pins: 1 +5V, 2 D-, 3 D+, 4 ID "Normally just leave N/C", 5 GND

## XF2J-1024-11A
designator P?, comment Flat Flex FFC
Flat-Flex, 10pos, Vertical; Manu. Part Number: XF2J-1024-11A; Manu: Omron; Max Current: 0.5A; Max Voltage: 50V; Supplier 1: Digi-Key; Supplier Part Number 1: OR735CT-ND
footprint FLAT-FLEX 10POS (10 Position FPC Connector Contacts, Vertical, 1 Sided 0.020" (0.50mm) Surface Mount)
pins: 1, 2, 3, 4, 5, 6, 7, 8, 9, 10